# Altium integrated library NSC Switcher.IntLib: 867 symbols (part 13 of 21)
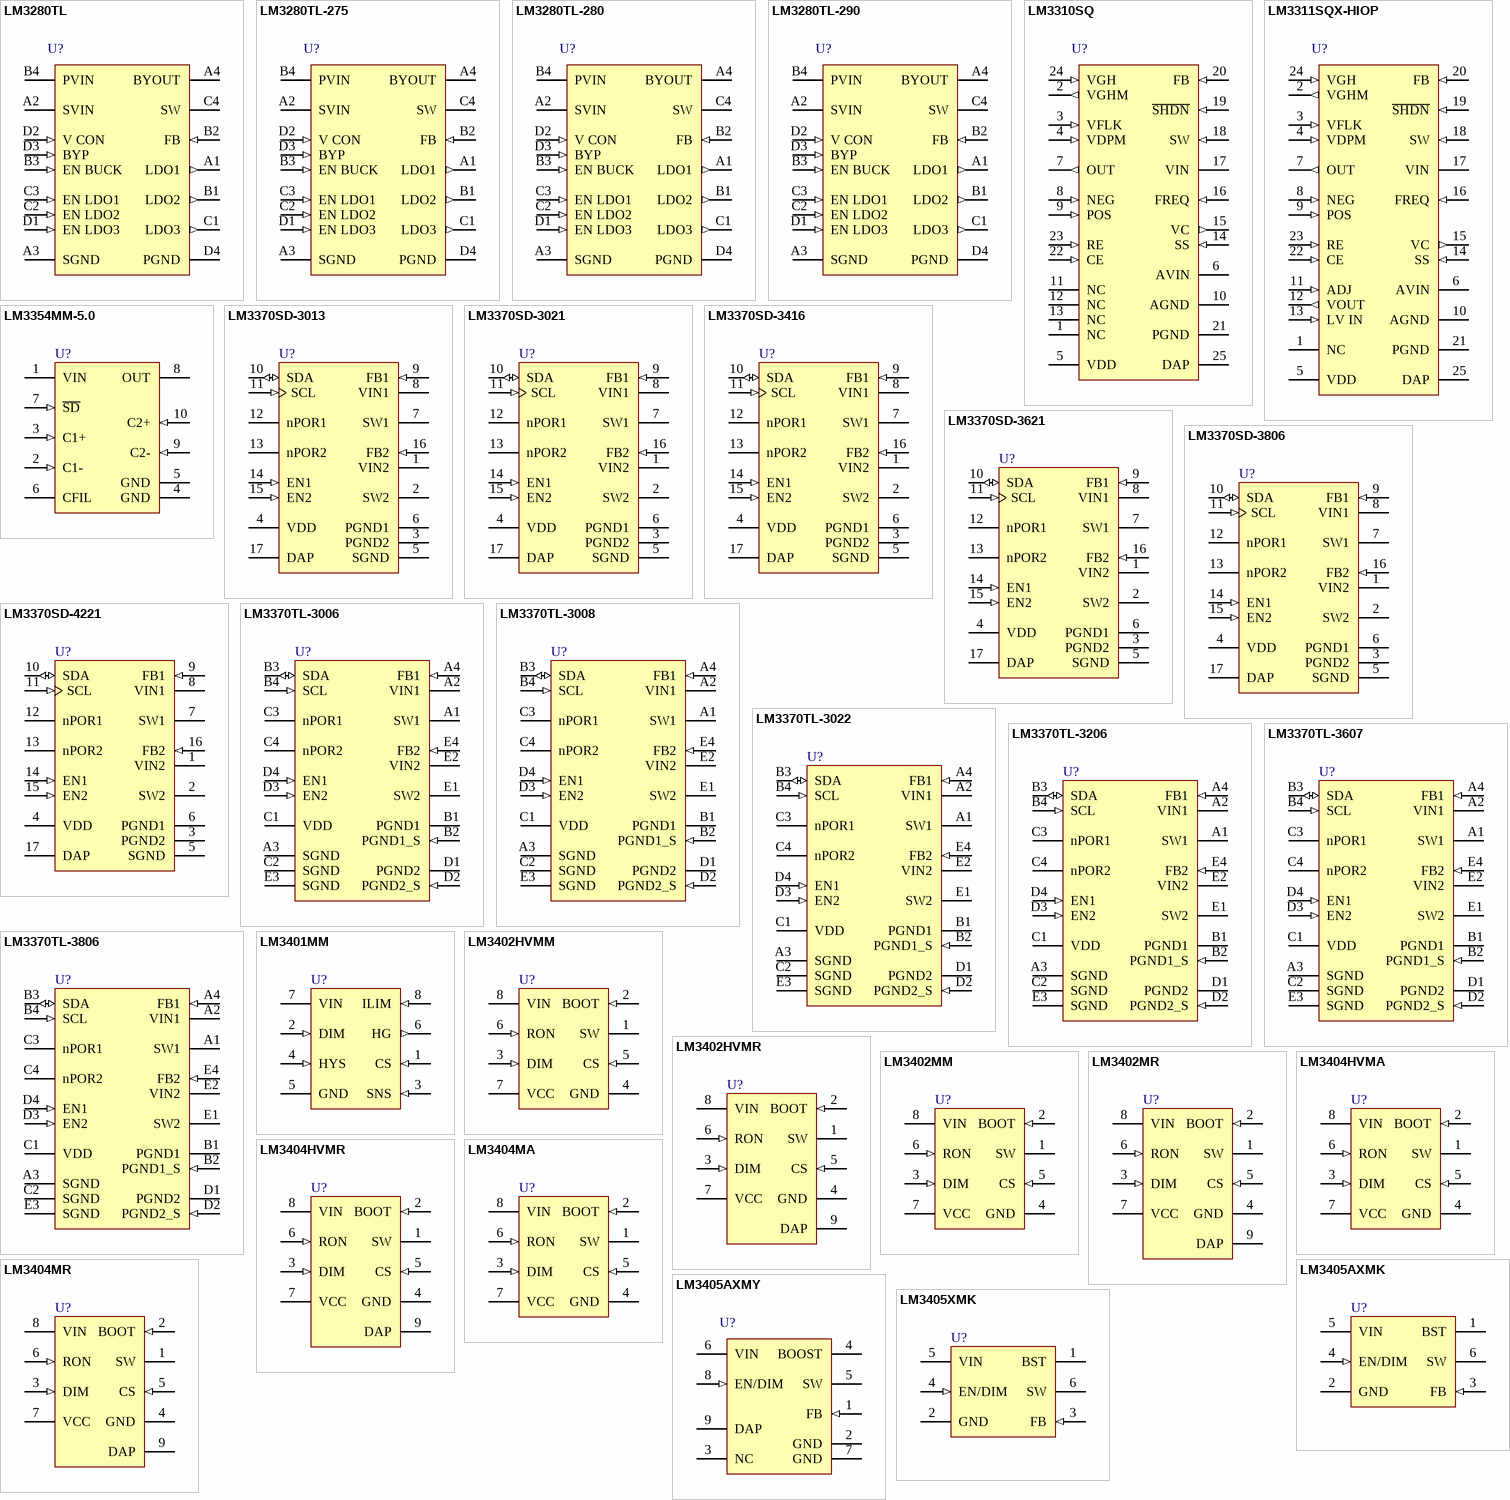
[diagram p38: symbols LM3280TL to LM3405XMK]

## LM3370TL-3806
designator U?
Dual Synchronous Step-Down DC-DC Converter with Dynamic Voltage Scaling Function; PartNumber: LM3370TL-3806; Manufacturer: National Semiconductor; CompType: Switcher; PackageTopMarking: XYTT*I SPVB; Published: 4-Dec-2008; PackageVersion: revD, 2008; PackageReference: TLA20CWA; Publisher: Altium Limited; PackageDescription: Thin Micro SMD, 20 Bump (Large), 0.5mm Pitch; RoHS: Y; PinCount: 20; DigiKeyPartNumber: LM3370TL-3806CT-ND; Code_JEDEC: MO-211-DG; ComponentLink1Description: LM3370 Datasheet; ComponentLink1URL: http://www.national.com/ds/LM/LM3370.pdf; ComponentLink2Description: LM3370 Web Page; ComponentLink2URL: http://www.national.com/pf/LM/LM3370.html; ComponentLink3Description: TLA20DWA Package Drawing; ComponentLink3URL: http://www.national.com/packaging/folders/tla20dwa.html
footprint TLA20CWA (Micro SMD, 20-Leads, Body 3x2.05mm, Pitch 0.5mm, NSC Recommended)
pins: A1 SW1 (power) "Buck 1 Switch Pin", A2 VIN1 (power) "Power supply voltage input to PFET and NFET switches for Buck 1", A3 SGND (power) "Signal GND", A4 FB1 (in) "Analog Feedback Input for Buck 1", B1 PGND1 (power) "Buck 1 Power Ground", B2 PGND1_S (in) "Buck 1 Power Ground Sense", B3 SDA (io) "I2C Compatible Data, a 2 kOhm pull up resistor is required", B4 SCL (in) "I2C Compatible Clock, a 2 kOhm pull up resistor is required", C1 VDD (power) "Signal supply voltage input.", C2 SGND (power) "Signal GND", C3 nPOR1 (oc) "Power ON Reset for Buck 1, Open drain output Low when Buck 1 output is 92% of target output.", C4 nPOR2 (oc) "Power ON Reset for Buck 2, Open drain output Low when Buck 2 output is 92% of target output.", D1 PGND2 (power) "Buck 2 Power Ground", D2 PGND2_S (in) "Buck 2 Power Ground Sense", D3 EN2 (in) "Buck 2 Enable", D4 EN1 (in) "Buck 1 Enable", E1 SW2 (power) "Buck 2 Switch Pin", E2 VIN2 (power) "Power supply voltage input to PFET and NFET switches for Buck 2", E3 SGND (power) "Signal GND", E4 FB2 (in) "Analog feedback for Buck 2"

## LM3401MM
designator U?
Hysteretic PFET Controller for High Power LED Drive; PartNumber: LM3401MM; Manufacturer: National Semiconductor; CompType: Switcher; PackageTopMarking: ZXTT*SNHB; Published: 4-Dec-2008; PackageVersion: revF, Apr-2008; PackageReference: MUA08A; Publisher: Altium Limited; PackageDescription: MINI SOIC, .118 x .118 x .034in, 8 Lead, .0256in Pitch; RoHS: Y; PinCount: 8; DigiKeyPartNumber: LM3401MMCT-ND; Code_JEDEC: MO-187-AA; ComponentLink1Description: LM3401 Datasheet; ComponentLink1URL: http://www.national.com/ds/LM/LM3401.pdf; ComponentLink2Description: LM3401 Web Page; ComponentLink2URL: http://www.national.com/pf/LM/LM3401.html; ComponentLink3Description: MUA08A Package Drawing; ComponentLink3URL: http://www.national.com/packaging/folders/mua08a.html
footprint MUA08A_N (TSOP, 8-Leads, Body 3x3mm, Pitch 0.65mm, IPC Medium Density)
footprint MUA08A_L (TSOP, 8-Leads, Body 3x3mm, Pitch 0.65mm, IPC High Density)
footprint MUA08A_M (TSOP, 8-Leads, Body 3x3mm, Pitch 0.65mm, IPC Low Density)
pins: 1 CS (in), 2 DIM (in), 3 SNS (in), 4 HYS (in), 5 GND (power), 6 HG (out), 7 VIN (power), 8 ILIM (in)

## LM3402HVMM
designator U?
0.5A Constant Current Buck Regulator for High Power LED Drivers; PartNumber: LM3402HVMM; Manufacturer: National Semiconductor; CompType: Switcher; PackageTopMarking: ZXTT*SNFB; Published: 4-Dec-2008; PackageVersion: revF, Apr-2008; PackageReference: MUA08A; Publisher: Altium Limited; PackageDescription: MINI SOIC, .118 x .118 x .034in, 8 Lead, .0256in Pitch; RoHS: Y; PinCount: 8; DigiKeyPartNumber: LM3402HVMMCT-ND; Code_JEDEC: MO-187-AA; ComponentLink1Description: LM3402HV Datasheet; ComponentLink1URL: http://www.national.com/ds/LM/LM3402HV.pdf; ComponentLink2Description: LM3402HV Web Page; ComponentLink2URL: http://www.national.com/pf/LM/LM3402HV.html; ComponentLink3Description: MUA08A Package Drawing; ComponentLink3URL: http://www.national.com/packaging/folders/mua08a.html
footprint MUA08A_N (TSOP, 8-Leads, Body 3x3mm, Pitch 0.65mm, IPC Medium Density)
footprint MUA08A_L (TSOP, 8-Leads, Body 3x3mm, Pitch 0.65mm, IPC High Density)
footprint MUA08A_M (TSOP, 8-Leads, Body 3x3mm, Pitch 0.65mm, IPC Low Density)
pins: 1 SW (power), 2 BOOT (in), 3 DIM (in), 4 GND (power), 5 CS (in), 6 RON (in), 7 VCC (power), 8 VIN (power)

## LM3402HVMR
designator U?
0.5A Constant Current Buck Regulator for High Power LED Drivers; PartNumber: LM3402HVMR; Manufacturer: National Semiconductor; CompType: Switcher; PackageTopMarking: NSXYTT*L3402*HVMR; Published: 4-Dec-2008; PackageVersion: revB, Dec-2007; PackageReference: MRA08B; Publisher: Altium Limited; PackageDescription: Molded, PSOP .193 x .154 x .058in, 8 Lead, .050in Pitch, Large DAP; RoHS: Y; PinCount: 8; DigiKeyPartNumber: LM3402HVMR-ND; Code_JEDEC: MS-012-AA; ComponentLink1Description: LM3402HV Datasheet; ComponentLink1URL: http://www.national.com/ds/LM/LM3402HV.pdf; ComponentLink2Description: LM3402HV Web Page; ComponentLink2URL: http://www.national.com/pf/LM/LM3402HV.html; ComponentLink3Description: MRA08B Package Drawing; ComponentLink3URL: http://www.national.com/packaging/folders/mra08b.html
footprint MRA08B_N (SOIC, 8-Leads, Body 4.9x3.9mm, Pitch 1.27mm, Exposed Pad, IPC Medium Density)
footprint MRA08B_L (SOIC, 8-Leads, Body 4.9x3.9mm, Pitch 1.27mm, Exposed Pad, IPC High Density)
footprint MRA08B_M (SOIC, 8-Leads, Body 4.9x3.9mm, Pitch 1.27mm, Exposed Pad, IPC Low Density)
pins: 1 SW (power), 2 BOOT (in), 3 DIM (in), 4 GND (power), 5 CS (in), 6 RON (in), 7 VCC (power), 8 VIN (power), 9 DAP (power)

## LM3402MM
designator U?
0.5A Constant Current Buck Regulator for High Power LED Drivers; PartNumber: LM3402MM; Manufacturer: National Semiconductor; CompType: Switcher; PackageTopMarking: ZXTT*SNEB; Published: 4-Dec-2008; PackageVersion: revF, Apr-2008; PackageReference: MUA08A; Publisher: Altium Limited; PackageDescription: MINI SOIC, .118 x .118 x .034in, 8 Lead, .0256in Pitch; RoHS: Y; PinCount: 8; DigiKeyPartNumber: LM3402MMCT-ND; Code_JEDEC: MO-187-AA; ComponentLink1Description: LM3402 Datasheet; ComponentLink1URL: http://www.national.com/ds/LM/LM3402.pdf; ComponentLink2Description: LM3402 Web Page; ComponentLink2URL: http://www.national.com/pf/LM/LM3402.html; ComponentLink3Description: MUA08A Package Drawing; ComponentLink3URL: http://www.national.com/packaging/folders/mua08a.html
footprint MUA08A_N (TSOP, 8-Leads, Body 3x3mm, Pitch 0.65mm, IPC Medium Density)
footprint MUA08A_L (TSOP, 8-Leads, Body 3x3mm, Pitch 0.65mm, IPC High Density)
footprint MUA08A_M (TSOP, 8-Leads, Body 3x3mm, Pitch 0.65mm, IPC Low Density)
pins: 1 SW (power), 2 BOOT (in), 3 DIM (in), 4 GND (power), 5 CS (in), 6 RON (in), 7 VCC (power), 8 VIN (power)

## LM3402MR
designator U?
0.5A Constant Current Buck Regulator for High Power LED Drivers; PartNumber: LM3402MR; Manufacturer: National Semiconductor; CompType: Switcher; PackageTopMarking: NSXYTT*L3402*MR; Published: 4-Dec-2008; PackageVersion: revB, Dec-2007; PackageReference: MRA08B; Publisher: Altium Limited; PackageDescription: Molded, PSOP .193 x .154 x .058in, 8 Lead, .050in Pitch, Large DAP; RoHS: Y; PinCount: 8; DigiKeyPartNumber: LM3402MR-ND; Code_JEDEC: MS-012-AA; ComponentLink1Description: LM3402 Datasheet; ComponentLink1URL: http://www.national.com/ds/LM/LM3402.pdf; ComponentLink2Description: LM3402 Web Page; ComponentLink2URL: http://www.national.com/pf/LM/LM3402.html; ComponentLink3Description: MRA08B Package Drawing; ComponentLink3URL: http://www.national.com/packaging/folders/mra08b.html
footprint MRA08B_N (SOIC, 8-Leads, Body 4.9x3.9mm, Pitch 1.27mm, Exposed Pad, IPC Medium Density)
footprint MRA08B_L (SOIC, 8-Leads, Body 4.9x3.9mm, Pitch 1.27mm, Exposed Pad, IPC High Density)
footprint MRA08B_M (SOIC, 8-Leads, Body 4.9x3.9mm, Pitch 1.27mm, Exposed Pad, IPC Low Density)
pins: 1 SW (power), 2 BOOT (in), 3 DIM (in), 4 GND (power), 5 CS (in), 6 RON (in), 7 VCC (power), 8 VIN (power), 9 DAP (power)

## LM3404HVMA
designator U?
1.0A Constant Current Buck Regulator for High Power LED Drivers; PartNumber: LM3404HVMA; Manufacturer: National Semiconductor; CompType: Switcher; PackageTopMarking: NSZXTT*L3404*HVMA; Published: 4-Dec-2008; PackageVersion: revL, Sep-2006; PackageReference: M08A; Publisher: Altium Limited; PackageDescription: SOIC Narrow, 4.9 x 3.9 x 1.45mm, 8 Lead, 1.27mm Pitch; RoHS: Y; PinCount: 8; DigiKeyPartNumber: LM3404HVMA-ND; Code_JEDEC: MS-012-AA; Code_IPC: SOIC127P600-8; ComponentLink1Description: LM3404HV Datasheet; ComponentLink1URL: http://www.national.com/ds/LM/LM3404HV.pdf; ComponentLink2Description: LM3404HV Web Page; ComponentLink2URL: http://www.national.com/pf/LM/LM3404HV.html; ComponentLink3Description: M08A Package Drawing; ComponentLink3URL: http://www.national.com/packaging/folders/m08a.html
footprint M08A_N (SOIC, 8-Leads, Body 4.9x3.9mm, Pitch 1.27mm, IPC Medium Density)
footprint M08A_L (SOIC, 8-Leads, Body 4.9x3.9mm, Pitch 1.27mm, IPC High Density)
footprint M08A_M (SOIC, 8-Leads, Body 4.9x3.9mm, Pitch 1.27mm, IPC Low Density)
pins: 1 SW (power), 2 BOOT (in), 3 DIM (in), 4 GND (power), 5 CS (in), 6 RON (in), 7 VCC (power), 8 VIN (power)

## LM3404HVMR
designator U?
1.0A Constant Current Buck Regulator for High Power LED Drivers; PartNumber: LM3404HVMR; Manufacturer: National Semiconductor; CompType: Switcher; PackageTopMarking: NSXYTT*L3404*HVMR; Published: 4-Dec-2008; PackageVersion: revB, Dec-2007; PackageReference: MRA08B; Publisher: Altium Limited; PackageDescription: Molded, PSOP .193 x .154 x .058in, 8 Lead, .050in Pitch, Large DAP; RoHS: Y; PinCount: 8; DigiKeyPartNumber: LM3404HVMR-ND; Code_JEDEC: MS-012-AA; ComponentLink1Description: LM3404HV Datasheet; ComponentLink1URL: http://www.national.com/ds/LM/LM3404HV.pdf; ComponentLink2Description: LM3404HV Web Page; ComponentLink2URL: http://www.national.com/pf/LM/LM3404HV.html; ComponentLink3Description: MRA08B Package Drawing; ComponentLink3URL: http://www.national.com/packaging/folders/mra08b.html
footprint MRA08B_N (SOIC, 8-Leads, Body 4.9x3.9mm, Pitch 1.27mm, Exposed Pad, IPC Medium Density)
footprint MRA08B_L (SOIC, 8-Leads, Body 4.9x3.9mm, Pitch 1.27mm, Exposed Pad, IPC High Density)
footprint MRA08B_M (SOIC, 8-Leads, Body 4.9x3.9mm, Pitch 1.27mm, Exposed Pad, IPC Low Density)
pins: 1 SW (power), 2 BOOT (in), 3 DIM (in), 4 GND (power), 5 CS (in), 6 RON (in), 7 VCC (power), 8 VIN (power), 9 DAP (power)

## LM3404MA
designator U?
1.0A Constant Current Buck Regulator for High Power LED Drivers; PartNumber: LM3404MA; Manufacturer: National Semiconductor; CompType: Switcher; PackageTopMarking: NSZXTT*L3404*MA; Published: 4-Dec-2008; PackageVersion: revL, Sep-2006; PackageReference: M08A; Publisher: Altium Limited; PackageDescription: SOIC Narrow, 4.9 x 3.9 x 1.45mm, 8 Lead, 1.27mm Pitch; RoHS: Y; PinCount: 8; DigiKeyPartNumber: LM3404MACT-ND; Code_JEDEC: MS-012-AA; Code_IPC: SOIC127P600-8; ComponentLink1Description: LM3404 Datasheet; ComponentLink1URL: http://www.national.com/ds/LM/LM3404.pdf; ComponentLink2Description: LM3404 Web Page; ComponentLink2URL: http://www.national.com/pf/LM/LM3404.html; ComponentLink3Description: M08A Package Drawing; ComponentLink3URL: http://www.national.com/packaging/folders/m08a.html
footprint M08A_N (SOIC, 8-Leads, Body 4.9x3.9mm, Pitch 1.27mm, IPC Medium Density)
footprint M08A_L (SOIC, 8-Leads, Body 4.9x3.9mm, Pitch 1.27mm, IPC High Density)
footprint M08A_M (SOIC, 8-Leads, Body 4.9x3.9mm, Pitch 1.27mm, IPC Low Density)
pins: 1 SW (power), 2 BOOT (in), 3 DIM (in), 4 GND (power), 5 CS (in), 6 RON (in), 7 VCC (power), 8 VIN (power)

## LM3404MR
designator U?
1.0A Constant Current Buck Regulator for High Power LED Drivers; PartNumber: LM3404MR; Manufacturer: National Semiconductor; CompType: Switcher; PackageTopMarking: NSXYTT*L3404*MR; Published: 4-Dec-2008; PackageVersion: revB, Dec-2007; PackageReference: MRA08B; Publisher: Altium Limited; PackageDescription: Molded, PSOP .193 x .154 x .058in, 8 Lead, .050in Pitch, Large DAP; RoHS: Y; PinCount: 8; DigiKeyPartNumber: LM3404MR-ND; Code_JEDEC: MS-012-AA; ComponentLink1Description: LM3404 Datasheet; ComponentLink1URL: http://www.national.com/ds/LM/LM3404.pdf; ComponentLink2Description: LM3404 Web Page; ComponentLink2URL: http://www.national.com/pf/LM/LM3404.html; ComponentLink3Description: MRA08B Package Drawing; ComponentLink3URL: http://www.national.com/packaging/folders/mra08b.html
footprint MRA08B_N (SOIC, 8-Leads, Body 4.9x3.9mm, Pitch 1.27mm, Exposed Pad, IPC Medium Density)
footprint MRA08B_L (SOIC, 8-Leads, Body 4.9x3.9mm, Pitch 1.27mm, Exposed Pad, IPC High Density)
footprint MRA08B_M (SOIC, 8-Leads, Body 4.9x3.9mm, Pitch 1.27mm, Exposed Pad, IPC Low Density)
pins: 1 SW (power), 2 BOOT (in), 3 DIM (in), 4 GND (power), 5 CS (in), 6 RON (in), 7 VCC (power), 8 VIN (power), 9 DAP (power)

## LM3405AXMK
designator U?
1.6MHz, 1A Constant Current Buck LED Driver with Internal Compensation in Tiny SOT23 Package; PartNumber: LM3405AXMK; Manufacturer: National Semiconductor; CompType: Switcher; PackageTopMarking: SSEB*XTT; Published: 4-Dec-2008; PackageVersion: revD, Jul-2005; PackageReference: MK06A; Publisher: Altium Limited; PackageDescription: Molded TSOT, 2.97 x 1.65 x 0.87mm Body, 6 Lead, 0.95mm Pitch; RoHS: Y; PinCount: 6; DigiKeyPartNumber: LM3405AXMKCT-ND; Code_JEDEC: MO-193-AA; Code_IPC: SOT26A-6; ComponentLink1Description: LM3405A Datasheet; ComponentLink1URL: http://www.national.com/ds/LM/LM3405A.pdf; ComponentLink2Description: LM3405A Web Page; ComponentLink2URL: http://www.national.com/pf/LM/LM3405A.html; ComponentLink3Description: MK06A Package Drawing; ComponentLink3URL: http://www.national.com/packaging/folders/mk06a.html
footprint MK06A_N (SOT23, 6-Leads, Body 3.0x1.7mm, Pitch 0.95mm, Lead Span 2.9mm, IPC Medium Density)
footprint MK06A_L (SOT23, 6-Leads, Body 3.0x1.7mm, Pitch 0.95mm, Lead Span 2.9mm, IPC High Density)
footprint MK06A_M (SOT23, 6-Leads, Body 3.0x1.7mm, Pitch 0.95mm, Lead Span 2.9mm, IPC Low Density)
pins: 1 BST, 2 GND (power), 3 FB (in), 4 EN/DIM (in), 5 VIN (power), 6 SW (power)

## LM3405AXMY
designator U?
1.6MHz, 1A Constant Current Buck LED Driver with Internal Compensation in eMSOP Package; PartNumber: LM3405AXMY; Manufacturer: National Semiconductor; CompType: Switcher; PackageTopMarking: ZXTT*SVSA; Published: 4-Dec-2008; PackageVersion: revA, Nov-2003; PackageReference: MUY08A; Publisher: Altium Limited; PackageDescription: Molded Mini-SO, Exposed Pad, .118 x .118 x .034in Body, 8 Lead, .0256in Pitch; RoHS: Y; PinCount: 8; Code_JEDEC: MO-187-AA; ComponentLink1Description: LM3405A Datasheet; ComponentLink1URL: http://www.national.com/ds/LM/LM3405A.pdf; ComponentLink2Description: LM3405A Web Page; ComponentLink2URL: http://www.national.com/pf/LM/LM3405A.html; ComponentLink3Description: MUY08A Package Drawing; ComponentLink3URL: http://www.national.com/packaging/folders/muy08a.html
footprint MUY08A_N (TSOP, 8-Leads, Body 3x3mm, Pitch 0.65mm, Exposed Pad, IPC Medium Density)
footprint MUY08A_L (TSOP, 8-Leads, Body 3x3mm, Pitch 0.65mm, Exposed Pad, IPC High Density)
footprint MUY08A_M (TSOP, 8-Leads, Body 3x3mm, Pitch 0.65mm, Exposed Pad, IPC Low Density)
pins: 1 FB (in), 2 GND (power), 3 NC, 4 BOOST, 5 SW (power), 6 VIN (power), 7 GND (power), 8 EN/DIM (in), 9 DAP (power)

## LM3405XMK
designator U?
1.6MHz 1A Constant Current Buck Regulator for Powering LEDs; PartNumber: LM3405XMK; Manufacturer: National Semiconductor; CompType: Switcher; PackageTopMarking: SPNB*XTT; Published: 4-Dec-2008; PackageVersion: revD, Jul-2005; PackageReference: MK06A; Publisher: Altium Limited; PackageDescription: Molded TSOT, 2.97 x 1.65 x 0.87mm Body, 6 Lead, 0.95mm Pitch; RoHS: Y; PinCount: 6; DigiKeyPartNumber: LM3405XMKCT-ND; Code_JEDEC: MO-193-AA; Code_IPC: SOT26A-6; ComponentLink1Description: LM3405 Datasheet; ComponentLink1URL: http://www.national.com/ds/LM/LM3405.pdf; ComponentLink2Description: LM3405 Web Page; ComponentLink2URL: http://www.national.com/pf/LM/LM3405.html; ComponentLink3Description: MK06A Package Drawing; ComponentLink3URL: http://www.national.com/packaging/folders/mk06a.html
footprint MK06A_N (SOT23, 6-Leads, Body 3.0x1.7mm, Pitch 0.95mm, Lead Span 2.9mm, IPC Medium Density)
footprint MK06A_L (SOT23, 6-Leads, Body 3.0x1.7mm, Pitch 0.95mm, Lead Span 2.9mm, IPC High Density)
footprint MK06A_M (SOT23, 6-Leads, Body 3.0x1.7mm, Pitch 0.95mm, Lead Span 2.9mm, IPC Low Density)
pins: 1 BST, 2 GND (power), 3 FB (in), 4 EN/DIM (in), 5 VIN (power), 6 SW (power)

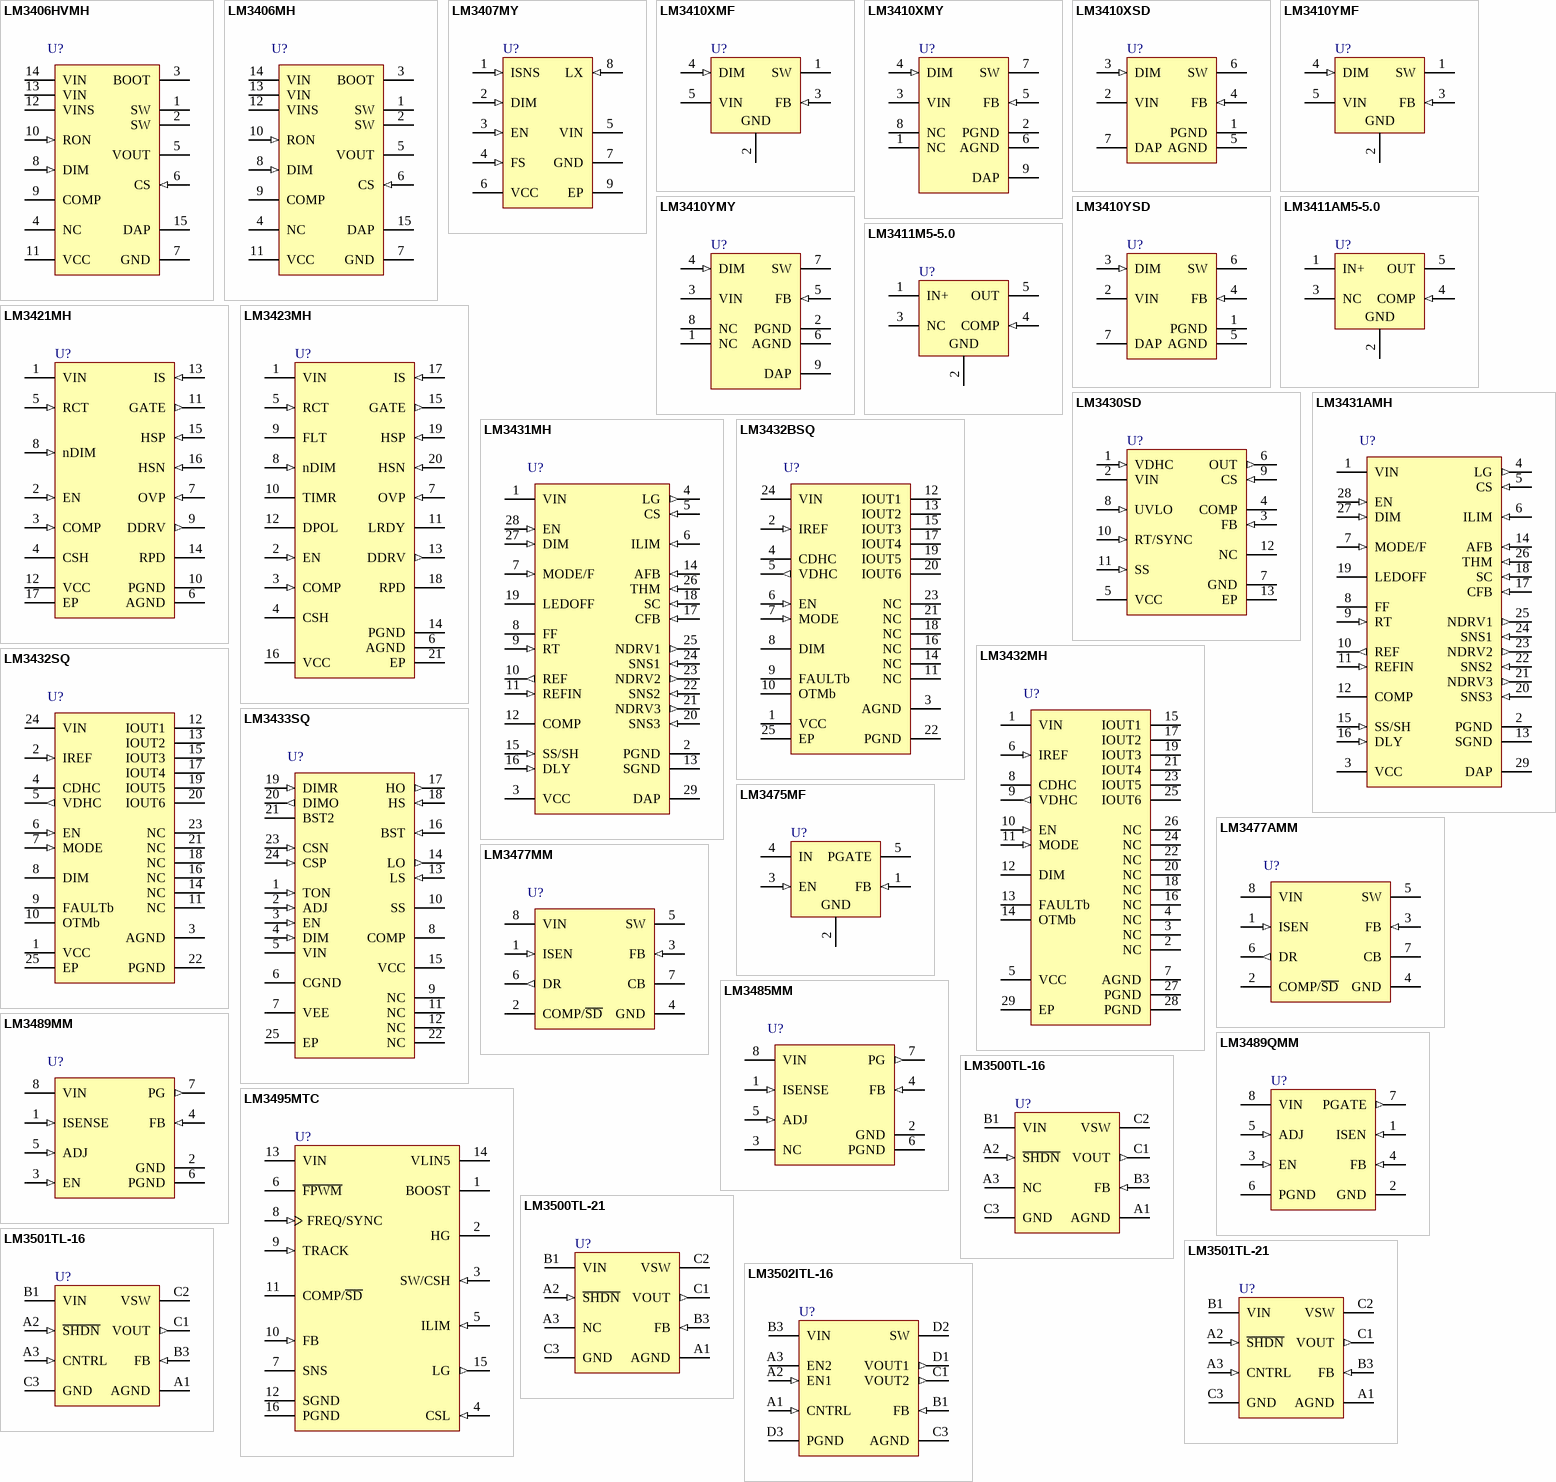
[diagram p15: symbols LM3406HVMH to LM3502ITL-16]

## LM3406HVMH
designator U?
1.5A Constant Current Buck Regulator for Driving High Power LEDs; PartNumber: LM3406HVMH; Manufacturer: National Semiconductor; CompType: Switcher; PackageTopMarking: NSUZXYTT*LM3406*HVMH; Published: 4-Dec-2008; PackageVersion: revA, Feb-2003; PackageReference: MXA14A; Publisher: Altium Limited; PackageDescription: Molded TSSOP, JEDEC, Exposed Pad, 5.0 x 4.4 x 0.9mm Body, 14 Lead, 0.65mm Pitch; RoHS: Y; PinCount: 14; DigiKeyPartNumber: LM3406HVMH-ND; Code_JEDEC: MO-153-ABT-1; ComponentLink1Description: LM3406HV Datasheet; ComponentLink1URL: http://www.national.com/ds/LM/LM3406HV.pdf; ComponentLink2Description: LM3406HV Web Page; ComponentLink2URL: http://www.national.com/pf/LM/LM3406HV.html; ComponentLink3Description: MXA14A Package Drawing; ComponentLink3URL: http://www.national.com/packaging/folders/mxa14a.html
footprint MXA14A_N (TSOP, 14-Leads, Body 5x4.4mm, Pitch 0.65mm, Exposed Pad, IPC Medium Density)
footprint MXA14A_L (TSOP, 14-Leads, Body 5x4.4mm, Pitch 0.65mm, Exposed Pad, IPC High Density)
footprint MXA14A_M (TSOP, 14-Leads, Body 5x4.4mm, Pitch 0.65mm, Exposed Pad, IPC Low Density)
pins: 1 SW (power), 2 SW (power), 3 BOOT, 4 NC, 5 VOUT, 6 CS (in), 7 GND (power), 8 DIM (in), 9 COMP, 10 RON (in), 11 VCC (power), 12 VINS (power), 13 VIN (power), 14 VIN (power), 15 DAP (power)

## LM3406MH
designator U?
1.5A Constant Current Buck Regulator for Driving High Power LEDs; PartNumber: LM3406MH; Manufacturer: National Semiconductor; CompType: Switcher; PackageTopMarking: NSUZXYTT*LM3406*MH; Published: 4-Dec-2008; PackageVersion: revA, Feb-2003; PackageReference: MXA14A; Publisher: Altium Limited; PackageDescription: Molded TSSOP, JEDEC, Exposed Pad, 5.0 x 4.4 x 0.9mm Body, 14 Lead, 0.65mm Pitch; RoHS: Y; PinCount: 14; DigiKeyPartNumber: LM3406MH-ND; Code_JEDEC: MO-153-ABT-1; ComponentLink1Description: LM3406 Datasheet; ComponentLink1URL: http://www.national.com/ds/LM/LM3406.pdf; ComponentLink2Description: LM3406 Web Page; ComponentLink2URL: http://www.national.com/pf/LM/LM3406.html; ComponentLink3Description: MXA14A Package Drawing; ComponentLink3URL: http://www.national.com/packaging/folders/mxa14a.html
footprint MXA14A_N (TSOP, 14-Leads, Body 5x4.4mm, Pitch 0.65mm, Exposed Pad, IPC Medium Density)
footprint MXA14A_L (TSOP, 14-Leads, Body 5x4.4mm, Pitch 0.65mm, Exposed Pad, IPC High Density)
footprint MXA14A_M (TSOP, 14-Leads, Body 5x4.4mm, Pitch 0.65mm, Exposed Pad, IPC Low Density)
pins: 1 SW (power), 2 SW (power), 3 BOOT, 4 NC, 5 VOUT, 6 CS (in), 7 GND (power), 8 DIM (in), 9 COMP, 10 RON (in), 11 VCC (power), 12 VINS (power), 13 VIN (power), 14 VIN (power), 15 DAP (power)

## LM3407MY
designator U?
350 mA, Constant Current Output Floating Buck Switching Converter for High Power LEDs; PartNumber: LM3407MY; Manufacturer: National Semiconductor; CompType: Switcher; PackageTopMarking: ZXTT*STZB; Published: 4-Dec-2008; PackageVersion: revA, Nov-2003; PackageReference: MUY08A; Publisher: Altium Limited; PackageDescription: Molded Mini-SO, Exposed Pad, .118 x .118 x .034in Body, 8 Lead, .0256in Pitch; RoHS: Y; PinCount: 8; DigiKeyPartNumber: LM3407MY-ND; Code_JEDEC: MO-187-AA; ComponentLink1Description: LM3407 Datasheet; ComponentLink1URL: http://www.national.com/ds/LM/LM3407.pdf; ComponentLink2Description: LM3407 Web Page; ComponentLink2URL: http://www.national.com/pf/LM/LM3407.html; ComponentLink3Description: MUY08A Package Drawing; ComponentLink3URL: http://www.national.com/packaging/folders/muy08a.html
footprint MUY08A_N (TSOP, 8-Leads, Body 3x3mm, Pitch 0.65mm, Exposed Pad, IPC Medium Density)
footprint MUY08A_L (TSOP, 8-Leads, Body 3x3mm, Pitch 0.65mm, Exposed Pad, IPC High Density)
footprint MUY08A_M (TSOP, 8-Leads, Body 3x3mm, Pitch 0.65mm, Exposed Pad, IPC Low Density)
pins: 1 ISNS (in), 2 DIM (in), 3 EN (in), 4 FS (in), 5 VIN (power), 6 VCC (power), 7 GND (power), 8 LX (in), 9 EP (power)

## LM3410XMF
designator U?
PowerWise 525kHz/1.6MHz, Constant Current Boost and SEPIC LED Driver with Internal Compensation; PartNumber: LM3410XMF; Manufacturer: National Semiconductor; CompType: Switcher; PackageTopMarking: SSVB*XTT; Published: 4-Dec-2008; PackageVersion: revD, Aug-2008; PackageReference: MF05A; Publisher: Altium Limited; PackageDescription: Molded SOT-23, .115 x .063 x .040 in Body, 5 Lead, .0375 in Pitch; RoHS: Y; PinCount: 5; DigiKeyPartNumber: LM3410XMFCT-ND; Code_IPC: SOT23-5; ComponentLink1Description: LM3410 Datasheet; ComponentLink1URL: http://www.national.com/ds/LM/LM3410.pdf; ComponentLink2Description: LM3410 Web Page; ComponentLink2URL: http://www.national.com/pf/LM/LM3410.html; ComponentLink3Description: MF05A Package Drawing; ComponentLink3URL: http://www.national.com/packaging/folders/mf05a.html
footprint MF05A_N (SOT23, 5-Leads, Body 2.9x1.6mm, Pitch 0.95mm, Lead Span 2.8mm, IPC Medium Density)
footprint MF05A_L (SOT23, 5-Leads, Body 2.9x1.6mm, Pitch 0.95mm, Lead Span 2.8mm, IPC High Density)
footprint MF05A_M (SOT23, 5-Leads, Body 2.9x1.6mm, Pitch 0.95mm, Lead Span 2.8mm, IPC Low Density)
pins: 1 SW (power), 2 GND (power), 3 FB (in), 4 DIM (in), 5 VIN (power)

## LM3410XMY
designator U?
PowerWise 525kHz/1.6MHz, Constant Current Boost and SEPIC LED Driver with Internal Compensation; PartNumber: LM3410XMY; Manufacturer: National Semiconductor; CompType: Switcher; PackageTopMarking: ZXTT*SSXB; Published: 4-Dec-2008; PackageVersion: revA, Nov-2003; PackageReference: MUY08A; Publisher: Altium Limited; PackageDescription: Molded Mini-SO, Exposed Pad, .118 x .118 x .034in Body, 8 Lead, .0256in Pitch; RoHS: Y; PinCount: 8; DigiKeyPartNumber: LM3410XMY-ND; Code_JEDEC: MO-187-AA; ComponentLink1Description: LM3410 Datasheet; ComponentLink1URL: http://www.national.com/ds/LM/LM3410.pdf; ComponentLink2Description: LM3410 Web Page; ComponentLink2URL: http://www.national.com/pf/LM/LM3410.html; ComponentLink3Description: MUY08A Package Drawing; ComponentLink3URL: http://www.national.com/packaging/folders/muy08a.html
footprint MUY08A_N (TSOP, 8-Leads, Body 3x3mm, Pitch 0.65mm, Exposed Pad, IPC Medium Density)
footprint MUY08A_L (TSOP, 8-Leads, Body 3x3mm, Pitch 0.65mm, Exposed Pad, IPC High Density)
footprint MUY08A_M (TSOP, 8-Leads, Body 3x3mm, Pitch 0.65mm, Exposed Pad, IPC Low Density)
pins: 1 NC, 2 PGND (power), 3 VIN (power), 4 DIM (in), 5 FB (in), 6 AGND (power), 7 SW (power), 8 NC, 9 DAP (power)

## LM3410XSD
designator U?
PowerWise 525kHz/1.6MHz, Constant Current Boost and SEPIC LED Driver with Internal Compensation; PartNumber: LM3410XSD; Manufacturer: National Semiconductor; CompType: Switcher; PackageTopMarking: ZXYTT*3410X; Published: 4-Dec-2008; PackageVersion: revA, Jul-2003; PackageReference: SDE06A; Publisher: Altium Limited; PackageDescription: LLP, Plastic, Dual, 3 x 3 x 0.8mm Body, 6 Lead, 0.95mm Pitch, No Pullback; RoHS: Y; PinCount: 6; DigiKeyPartNumber: LM3410XSDCT-ND; ComponentLink1Description: LM3410 Datasheet; ComponentLink1URL: http://www.national.com/ds/LM/LM3410.pdf; ComponentLink2Description: LM3410 Web Page; ComponentLink2URL: http://www.national.com/pf/LM/LM3410.html; ComponentLink3Description: SDE06A Package Drawing; ComponentLink3URL: http://www.national.com/packaging/folders/sde06a.html
footprint SDE06A_full (SON, 6-Leads, Body 3x3 mm, Pitch 0.95mm, Full Paste, NSC Recommended)
footprint SDE06A_quad (SON, 6-Leads, Body 3x3 mm, Pitch 0.95mm, Quad Paste, NSC Recommended)
pins: 1 PGND (power), 2 VIN (power), 3 DIM (in), 4 FB (in), 5 AGND (power), 6 SW (power), 7 DAP (power)

## LM3410YMF
designator U?
PowerWise 525kHz/1.6MHz, Constant Current Boost and SEPIC LED Driver with Internal Compensation; PartNumber: LM3410YMF; Manufacturer: National Semiconductor; CompType: Switcher; PackageTopMarking: SSZB*XTT; Published: 4-Dec-2008; PackageVersion: revD, Aug-2008; PackageReference: MF05A; Publisher: Altium Limited; PackageDescription: Molded SOT-23, .115 x .063 x .040 in Body, 5 Lead, .0375 in Pitch; RoHS: Y; PinCount: 5; DigiKeyPartNumber: LM3410YMFCT-ND; Code_IPC: SOT23-5; ComponentLink1Description: LM3410 Datasheet; ComponentLink1URL: http://www.national.com/ds/LM/LM3410.pdf; ComponentLink2Description: LM3410 Web Page; ComponentLink2URL: http://www.national.com/pf/LM/LM3410.html; ComponentLink3Description: MF05A Package Drawing; ComponentLink3URL: http://www.national.com/packaging/folders/mf05a.html
footprint MF05A_N (SOT23, 5-Leads, Body 2.9x1.6mm, Pitch 0.95mm, Lead Span 2.8mm, IPC Medium Density)
footprint MF05A_L (SOT23, 5-Leads, Body 2.9x1.6mm, Pitch 0.95mm, Lead Span 2.8mm, IPC High Density)
footprint MF05A_M (SOT23, 5-Leads, Body 2.9x1.6mm, Pitch 0.95mm, Lead Span 2.8mm, IPC Low Density)
pins: 1 SW (power), 2 GND (power), 3 FB (in), 4 DIM (in), 5 VIN (power)

## LM3410YMY
designator U?
PowerWise 525kHz/1.6MHz, Constant Current Boost and SEPIC LED Driver with Internal Compensation; PartNumber: LM3410YMY; Manufacturer: National Semiconductor; CompType: Switcher; PackageTopMarking: ZXTT*STAB; Published: 4-Dec-2008; PackageVersion: revA, Nov-2003; PackageReference: MUY08A; Publisher: Altium Limited; PackageDescription: Molded Mini-SO, Exposed Pad, .118 x .118 x .034in Body, 8 Lead, .0256in Pitch; RoHS: Y; PinCount: 8; DigiKeyPartNumber: LM3410YMY-ND; Code_JEDEC: MO-187-AA; ComponentLink1Description: LM3410 Datasheet; ComponentLink1URL: http://www.national.com/ds/LM/LM3410.pdf; ComponentLink2Description: LM3410 Web Page; ComponentLink2URL: http://www.national.com/pf/LM/LM3410.html; ComponentLink3Description: MUY08A Package Drawing; ComponentLink3URL: http://www.national.com/packaging/folders/muy08a.html
footprint MUY08A_N (TSOP, 8-Leads, Body 3x3mm, Pitch 0.65mm, Exposed Pad, IPC Medium Density)
footprint MUY08A_L (TSOP, 8-Leads, Body 3x3mm, Pitch 0.65mm, Exposed Pad, IPC High Density)
footprint MUY08A_M (TSOP, 8-Leads, Body 3x3mm, Pitch 0.65mm, Exposed Pad, IPC Low Density)
pins: 1 NC, 2 PGND (power), 3 VIN (power), 4 DIM (in), 5 FB (in), 6 AGND (power), 7 SW (power), 8 NC, 9 DAP (power)

## LM3410YSD
designator U?
PowerWise 525kHz/1.6MHz, Constant Current Boost and SEPIC LED Driver with Internal Compensation; PartNumber: LM3410YSD; Manufacturer: National Semiconductor; CompType: Switcher; PackageTopMarking: ZXYTT*3410Y; Published: 4-Dec-2008; PackageVersion: revA, Jul-2003; PackageReference: SDE06A; Publisher: Altium Limited; PackageDescription: LLP, Plastic, Dual, 3 x 3 x 0.8mm Body, 6 Lead, 0.95mm Pitch, No Pullback; RoHS: Y; PinCount: 6; DigiKeyPartNumber: LM3410YSDCT-ND; ComponentLink1Description: LM3410 Datasheet; ComponentLink1URL: http://www.national.com/ds/LM/LM3410.pdf; ComponentLink2Description: LM3410 Web Page; ComponentLink2URL: http://www.national.com/pf/LM/LM3410.html; ComponentLink3Description: SDE06A Package Drawing; ComponentLink3URL: http://www.national.com/packaging/folders/sde06a.html
footprint SDE06A_full (SON, 6-Leads, Body 3x3 mm, Pitch 0.95mm, Full Paste, NSC Recommended)
footprint SDE06A_quad (SON, 6-Leads, Body 3x3 mm, Pitch 0.95mm, Quad Paste, NSC Recommended)
pins: 1 PGND (power), 2 VIN (power), 3 DIM (in), 4 FB (in), 5 AGND (power), 6 SW (power), 7 DAP (power)

## LM3411AM5-5.0
designator U?
Precision Secondary Regulator/Driver; PartNumber: LM3411AM5-5.0; Manufacturer: National Semiconductor; CompType: Switcher; PackageTopMarking: D01A*XTT; Published: 4-Dec-2008; PackageVersion: revD, Aug-2008; PackageReference: MF05A; Publisher: Altium Limited; PackageDescription: Molded SOT-23, .115 x .063 x .040 in Body, 5 Lead, .0375 in Pitch; RoHS: O; PinCount: 5; DigiKeyPartNumber: LM3411AM5-5.0CT-ND; Code_IPC: SOT23-5; ComponentLink1Description: LM3411 Datasheet; ComponentLink1URL: http://www.national.com/ds/LM/LM3411.pdf; ComponentLink2Description: LM3411 Web Page; ComponentLink2URL: http://www.national.com/pf/LM/LM3411.html; ComponentLink3Description: MF05A Package Drawing; ComponentLink3URL: http://www.national.com/packaging/folders/mf05a.html
footprint MF05A_N (SOT23, 5-Leads, Body 2.9x1.6mm, Pitch 0.95mm, Lead Span 2.8mm, IPC Medium Density)
footprint MF05A_L (SOT23, 5-Leads, Body 2.9x1.6mm, Pitch 0.95mm, Lead Span 2.8mm, IPC High Density)
footprint MF05A_M (SOT23, 5-Leads, Body 2.9x1.6mm, Pitch 0.95mm, Lead Span 2.8mm, IPC Low Density)
pins: 1 IN+ (power), 2 GND (power), 3 NC, 4 COMP (in), 5 OUT (power)

## LM3411M5-5.0
designator U?
Precision Secondary Regulator/Driver; PartNumber: LM3411M5-5.0; Manufacturer: National Semiconductor; CompType: Switcher; PackageTopMarking: D01B*XTT; Published: 4-Dec-2008; PackageVersion: revD, Aug-2008; PackageReference: MF05A; Publisher: Altium Limited; PackageDescription: Molded SOT-23, .115 x .063 x .040 in Body, 5 Lead, .0375 in Pitch; RoHS: O; PinCount: 5; DigiKeyPartNumber: LM3411M5-5.0CT-ND; Code_IPC: SOT23-5; ComponentLink1Description: LM3411 Datasheet; ComponentLink1URL: http://www.national.com/ds/LM/LM3411.pdf; ComponentLink2Description: LM3411 Web Page; ComponentLink2URL: http://www.national.com/pf/LM/LM3411.html; ComponentLink3Description: MF05A Package Drawing; ComponentLink3URL: http://www.national.com/packaging/folders/mf05a.html
footprint MF05A_N (SOT23, 5-Leads, Body 2.9x1.6mm, Pitch 0.95mm, Lead Span 2.8mm, IPC Medium Density)
footprint MF05A_L (SOT23, 5-Leads, Body 2.9x1.6mm, Pitch 0.95mm, Lead Span 2.8mm, IPC High Density)
footprint MF05A_M (SOT23, 5-Leads, Body 2.9x1.6mm, Pitch 0.95mm, Lead Span 2.8mm, IPC Low Density)
pins: 1 IN+ (power), 2 GND (power), 3 NC, 4 COMP (in), 5 OUT (power)

## LM3421MH
designator U?
N-Channel Controllers for Constant Current LED Drivers; PartNumber: LM3421MH; Manufacturer: National Semiconductor; CompType: Switcher; PackageTopMarking: NSUZXYTT*LM3421*MH; Published: 4-Dec-2008; PackageVersion: revA, Apr-2003; PackageReference: MXA16A; Publisher: Altium Limited; PackageDescription: Molded TSSOP, Jedec, Exposed Pad, 5.0 x 4.4 x 0.9mm Body,16 Lead, 0.65mm Pitch; RoHS: Y; PinCount: 16; DigiKeyPartNumber: LM3421MH-ND; Code_JEDEC: MO-153-ABT; ComponentLink1Description: LM3421 Datasheet; ComponentLink1URL: http://www.national.com/ds/LM/LM3421.pdf; ComponentLink2Description: LM3421 Web Page; ComponentLink2URL: http://www.national.com/pf/LM/LM3421.html; ComponentLink3Description: MXA16A Package Drawing; ComponentLink3URL: http://www.national.com/packaging/folders/mxa16a.html
footprint MXA16A_N (TSOP, 16-Leads, Body 5x4.4mm, Pitch 0.65mm, Exposed Pad, IPC Medium Density)
footprint MXA16A_L (TSOP, 16-Leads, Body 5x4.4mm, Pitch 0.65mm, Exposed Pad, IPC High Density)
footprint MXA16A_M (TSOP, 16-Leads, Body 5x4.4mm, Pitch 0.65mm, Exposed Pad, IPC Low Density)
pins: 1 VIN (power), 2 EN (in), 3 COMP (in), 4 CSH, 5 RCT (in), 6 AGND (power), 7 OVP (in), 8 nDIM (in), 9 DDRV (out), 10 PGND (power), 11 GATE (out), 12 VCC (power), 13 IS (in), 14 RPD (oc), 15 HSP (in), 16 HSN (in), 17 EP (power)

## LM3423MH
designator U?
N-Channel Controllers for Constant Current LED Drivers; PartNumber: LM3423MH; Manufacturer: National Semiconductor; CompType: Switcher; PackageTopMarking: NSUZXYTT*LM3423*MH; Published: 4-Dec-2008; PackageVersion: revC, Jul-2006; PackageReference: MXA20A; Publisher: Altium Limited; PackageDescription: Molded TSSOP, Jedec, 6.5 x 4.4 x 0.9mm Body, 20 Lead, 0.65mm Pitch, Exposed Pad; RoHS: Y; PinCount: 20; DigiKeyPartNumber: LM3423MH-ND; Code_JEDEC: MO-153-ACT; ComponentLink1Description: LM3423 Datasheet; ComponentLink1URL: http://www.national.com/ds/LM/LM3423.pdf; ComponentLink2Description: LM3423 Web Page; ComponentLink2URL: http://www.national.com/pf/LM/LM3423.html; ComponentLink3Description: MXA20A Package Drawing; ComponentLink3URL: http://www.national.com/packaging/folders/mxa20a.html
footprint MXA20A_N (TSOP, 20-Leads, Body 6.5x4.4mm, Pitch 0.65mm, Exposed Pad, IPC Medium Density)
footprint MXA20A_L (TSOP, 20-Leads, Body 6.5x4.4mm, Pitch 0.65mm, Exposed Pad, IPC High Density)
footprint MXA20A_M (TSOP, 20-Leads, Body 6.5x4.4mm, Pitch 0.65mm, Exposed Pad, IPC Low Density)
pins: 1 VIN (power), 2 EN (in), 3 COMP (in), 4 CSH, 5 RCT (in), 6 AGND (power), 7 OVP (in), 8 nDIM (in), 9 FLT (oc), 10 TIMR, 11 LRDY (oc), 12 DPOL, 13 DDRV (out), 14 PGND (power), 15 GATE (out), 16 VCC (power), 17 IS (in), 18 RPD (oc), 19 HSP (in), 20 HSN (in), 21 EP (power)

## LM3430SD
designator U?
Boost Controller for LED Backlighting; PartNumber: LM3430SD; Manufacturer: National Semiconductor; CompType: Switcher; PackageTopMarking: ZXYTT*L3430; Published: 4-Dec-2008; PackageVersion: revB, Jul-2008; PackageReference: SDF12A; Publisher: Altium Limited; PackageDescription: LLP, Plastic, Dual, 3 x 3 x 0.8mm Body, 12 Lead, 0.4mm Pitch, No Pullback; RoHS: O; PinCount: 12; DigiKeyPartNumber: LM3430SDCT-ND; ComponentLink1Description: LM3430 Datasheet; ComponentLink1URL: http://www.national.com/ds/LM/LM3430.pdf; ComponentLink2Description: LM3430 Web Page; ComponentLink2URL: http://www.national.com/pf/LM/LM3430.html; ComponentLink3Description: SDF12A Package Drawing; ComponentLink3URL: http://www.national.com/packaging/folders/sdf12a.html
footprint SDF12A (SON, 12-Leads, Body 3x3mm, Pitch 0.4mm, NSC Recommended)
pins: 1 VDHC (in), 2 VIN (power), 3 FB (in), 4 COMP, 5 VCC (power), 6 OUT (out), 7 GND (power), 8 UVLO (in), 9 CS (in), 10 RT/SYNC (in), 11 SS (in), 12 NC, 13 EP (power)

## LM3431AMH
designator U?
3-Channel Constant Current LED Driver with Integrated Boost Controller; PartNumber: LM3431AMH; Manufacturer: National Semiconductor; CompType: Switcher; PackageTopMarking: NSUZXYTT*LM3431AMH; Published: 4-Dec-2008; PackageVersion: revD, Oct-2003; PackageReference: MXA28A; Publisher: Altium Limited; PackageDescription: Molded TSSOP, Jedec, 9.7 x 4.4 x 0.9mm Body, 28 Lead, 0.65mm Pitch, Exposed Pad; RoHS: Y; PinCount: 28; DigiKeyPartNumber: LM3431AMH-ND; Code_JEDEC: MO-153-AET; ComponentLink1Description: LM3431 Datasheet; ComponentLink1URL: http://www.national.com/ds/LM/LM3431.pdf; ComponentLink2Description: LM3431 Web Page; ComponentLink2URL: http://www.national.com/pf/LM/LM3431.html; ComponentLink3Description: MXA28A Package Drawing; ComponentLink3URL: http://www.national.com/packaging/folders/mxa28a.html
footprint MXA28A_N (TSOP, 28-Leads, Body 9.7x4.4mm, Pitch 0.65mm, Exposed Pad, IPC Medium Density)
footprint MXA28A_L (TSOP, 28-Leads, Body 9.7x4.4mm, Pitch 0.65mm, Exposed Pad, IPC High Density)
footprint MXA28A_M (TSOP, 28-Leads, Body 9.7x4.4mm, Pitch 0.65mm, Exposed Pad, IPC Low Density)
pins: 1 VIN (power), 2 PGND (power), 3 VCC (power), 4 LG (out), 5 CS (in), 6 ILIM (in), 7 MODE/F (in), 8 FF, 9 RT (in), 10 REF (out), 11 REFIN (in), 12 COMP, 13 SGND (power), 14 AFB (in), 15 SS/SH (in), 16 DLY (in), 17 CFB (in), 18 SC (in), 19 LEDOFF, 20 SNS3 (in), 21 NDRV3 (out), 22 SNS2 (in), 23 NDRV2 (out), 24 SNS1 (in), 25 NDRV1 (out), 26 THM (in), 27 DIM (in), 28 EN (in), 29 DAP (power)

## LM3431MH
designator U?
3-Channel Constant Current LED Driver with Integrated Boost Controller; PartNumber: LM3431MH; Manufacturer: National Semiconductor; CompType: Switcher; PackageTopMarking: NSUZXYTT*LM3431MH; Published: 4-Dec-2008; PackageVersion: revD, Oct-2003; PackageReference: MXA28A; Publisher: Altium Limited; PackageDescription: Molded TSSOP, Jedec, 9.7 x 4.4 x 0.9mm Body, 28 Lead, 0.65mm Pitch, Exposed Pad; RoHS: Y; PinCount: 28; DigiKeyPartNumber: LM3431MH-ND; Code_JEDEC: MO-153-AET; ComponentLink1Description: LM3431 Datasheet; ComponentLink1URL: http://www.national.com/ds/LM/LM3431.pdf; ComponentLink2Description: LM3431 Web Page; ComponentLink2URL: http://www.national.com/pf/LM/LM3431.html; ComponentLink3Description: MXA28A Package Drawing; ComponentLink3URL: http://www.national.com/packaging/folders/mxa28a.html
footprint MXA28A_N (TSOP, 28-Leads, Body 9.7x4.4mm, Pitch 0.65mm, Exposed Pad, IPC Medium Density)
footprint MXA28A_L (TSOP, 28-Leads, Body 9.7x4.4mm, Pitch 0.65mm, Exposed Pad, IPC High Density)
footprint MXA28A_M (TSOP, 28-Leads, Body 9.7x4.4mm, Pitch 0.65mm, Exposed Pad, IPC Low Density)
pins: 1 VIN (power), 2 PGND (power), 3 VCC (power), 4 LG (out), 5 CS (in), 6 ILIM (in), 7 MODE/F (in), 8 FF, 9 RT (in), 10 REF (out), 11 REFIN (in), 12 COMP, 13 SGND (power), 14 AFB (in), 15 SS/SH (in), 16 DLY (in), 17 CFB (in), 18 SC (in), 19 LEDOFF, 20 SNS3 (in), 21 NDRV3 (out), 22 SNS2 (in), 23 NDRV2 (out), 24 SNS1 (in), 25 NDRV1 (out), 26 THM (in), 27 DIM (in), 28 EN (in), 29 DAP (power)

## LM3432BSQ
designator U?
6-Channel Current Regulator for LED Backlight Application; PartNumber: LM3432BSQ; Manufacturer: National Semiconductor; CompType: Switcher; PackageTopMarking: NS*UZXYTT*3432BSQ; Published: 4-Dec-2008; PackageVersion: revA, Oct-2003; PackageReference: SQA24B; Publisher: Altium Limited; PackageDescription: LLP, Plastic, Quad, 5 x 4 x 0.8mm Body, 24 Lead, 0.5mm Pitch, No Pullback; RoHS: Y; PinCount: 24; Code_JEDEC: MO-220-WGHD-1; ComponentLink1Description: LM3432B Datasheet; ComponentLink1URL: http://www.national.com/ds/LM/LM3432B.pdf; ComponentLink2Description: LM3432B Web Page; ComponentLink2URL: http://www.national.com/pf/LM/LM3432B.html; ComponentLink3Description: SQA24B Package Drawing; ComponentLink3URL: http://www.national.com/packaging/folders/sqa24b.html
footprint SQA24B (QFN, 24-Leads, Body 5x4mm, Pitch 0.5mm, NSC Recommended)
pins: 1 VCC (power), 2 IREF (in), 3 AGND (power), 4 CDHC, 5 VDHC (out), 6 EN (in), 7 MODE (in), 8 DIM, 9 FAULTb (oc), 10 OTMb (oc), 11 NC, 12 IOUT1 (oc), 13 IOUT2 (oc), 14 NC, 15 IOUT3 (oc), 16 NC, 17 IOUT4 (oc), 18 NC, 19 IOUT5 (oc), 20 IOUT6 (oc), 21 NC, 22 PGND (power), 23 NC, 24 VIN (power), 25 EP (power)

## LM3432MH
designator U?
6-Channel Current Regulator for LED Backlight Application; PartNumber: LM3432MH; Manufacturer: National Semiconductor; CompType: Switcher; PackageTopMarking: NSUZXYTT*LM3432*MH; Published: 4-Dec-2008; PackageVersion: revD, Oct-2003; PackageReference: MXA28A; Publisher: Altium Limited; PackageDescription: Molded TSSOP, Jedec, 9.7 x 4.4 x 0.9mm Body, 28 Lead, 0.65mm Pitch, Exposed Pad; RoHS: Y; PinCount: 28; DigiKeyPartNumber: LM3432MH-ND; Code_JEDEC: MO-153-AET; ComponentLink1Description: LM3432 Datasheet; ComponentLink1URL: http://www.national.com/ds/LM/LM3432.pdf; ComponentLink2Description: LM3432 Web Page; ComponentLink2URL: http://www.national.com/pf/LM/LM3432.html; ComponentLink3Description: MXA28A Package Drawing; ComponentLink3URL: http://www.national.com/packaging/folders/mxa28a.html
footprint MXA28A_N (TSOP, 28-Leads, Body 9.7x4.4mm, Pitch 0.65mm, Exposed Pad, IPC Medium Density)
footprint MXA28A_L (TSOP, 28-Leads, Body 9.7x4.4mm, Pitch 0.65mm, Exposed Pad, IPC High Density)
footprint MXA28A_M (TSOP, 28-Leads, Body 9.7x4.4mm, Pitch 0.65mm, Exposed Pad, IPC Low Density)
pins: 1 VIN (power), 2 NC, 3 NC, 4 NC, 5 VCC (power), 6 IREF (in), 7 AGND (power), 8 CDHC, 9 VDHC (out), 10 EN (in), 11 MODE (in), 12 DIM, 13 FAULTb (oc), 14 OTMb (oc), 15 IOUT1 (oc), 16 NC, 17 IOUT2 (oc), 18 NC, 19 IOUT3 (oc), 20 NC, 21 IOUT4 (oc), 22 NC, 23 IOUT5 (oc), 24 NC, 25 IOUT6 (oc), 26 NC, 27 PGND (power), 28 PGND (power), 29 EP (power)

## LM3432SQ
designator U?
6-Channel Current Regulator for LED Backlight Application; PartNumber: LM3432SQ; Manufacturer: National Semiconductor; CompType: Switcher; PackageTopMarking: NS*UZXYTT*L3432SQ; Published: 4-Dec-2008; PackageVersion: revA, Oct-2003; PackageReference: SQA24B; Publisher: Altium Limited; PackageDescription: LLP, Plastic, Quad, 5 x 4 x 0.8mm Body, 24 Lead, 0.5mm Pitch, No Pullback; RoHS: Y; PinCount: 24; DigiKeyPartNumber: LM3432SQCT-ND; Code_JEDEC: MO-220-WGHD-1; ComponentLink1Description: LM3432 Datasheet; ComponentLink1URL: http://www.national.com/ds/LM/LM3432.pdf; ComponentLink2Description: LM3432 Web Page; ComponentLink2URL: http://www.national.com/pf/LM/LM3432.html; ComponentLink3Description: SQA24B Package Drawing; ComponentLink3URL: http://www.national.com/packaging/folders/sqa24b.html
footprint SQA24B (QFN, 24-Leads, Body 5x4mm, Pitch 0.5mm, NSC Recommended)
pins: 1 VCC (power), 2 IREF (in), 3 AGND (power), 4 CDHC, 5 VDHC (out), 6 EN (in), 7 MODE (in), 8 DIM, 9 FAULTb (oc), 10 OTMb (oc), 11 NC, 12 IOUT1 (oc), 13 IOUT2 (oc), 14 NC, 15 IOUT3 (oc), 16 NC, 17 IOUT4 (oc), 18 NC, 19 IOUT5 (oc), 20 IOUT6 (oc), 21 NC, 22 PGND (power), 23 NC, 24 VIN (power), 25 EP (power)

## LM3433SQ
designator U?
Common Anode Capable High Brightness LED Driver with High Frequency Dimming; PartNumber: LM3433SQ; Manufacturer: National Semiconductor; CompType: Switcher; PackageTopMarking: NS*UZXYTT*L3433SQ; Published: 4-Dec-2008; PackageVersion: revB, Aug-2003; PackageReference: SQA24A; Publisher: Altium Limited; PackageDescription: LLP, Plastic, Quad, 4 x 4 x 0.8mm Body, 24 Lead, 0.5mm Pitch, No Pullback; RoHS: Y; PinCount: 24; DigiKeyPartNumber: LM3433SQCT-ND; Code_JEDEC: MO-220-WGGD-6; ComponentLink1Description: LM3433 Datasheet; ComponentLink1URL: http://www.national.com/ds/LM/LM3433.pdf; ComponentLink2Description: LM3433 Web Page; ComponentLink2URL: http://www.national.com/pf/LM/LM3433.html; ComponentLink3Description: SQA24A Package Drawing; ComponentLink3URL: http://www.national.com/packaging/folders/sqa24a.html
footprint SQA24A (QFN, 24-Leads, Body 4x4mm, Pitch 0.5mm, NSC Recommended)
pins: 1 TON (in), 2 ADJ (in), 3 EN (in), 4 DIM (in), 5 VIN (power), 6 CGND (power), 7 VEE (power), 8 COMP, 9 NC, 10 SS, 11 NC, 12 NC, 13 LS (in), 14 LO (out), 15 VCC (power), 16 BST (in), 17 HO (out), 18 HS (in), 19 DIMR (in), 20 DIMO (out), 21 BST2, 22 NC, 23 CSN (in), 24 CSP (in), 25 EP (power)

## LM3475MF
designator U?
Hysteretic PFET Buck Controller; PartNumber: LM3475MF; Manufacturer: National Semiconductor; CompType: Switcher; PackageTopMarking: S65B*XTT; Published: 4-Dec-2008; PackageVersion: revD, Aug-2008; PackageReference: MF05A; Publisher: Altium Limited; PackageDescription: Molded SOT-23, .115 x .063 x .040 in Body, 5 Lead, .0375 in Pitch; RoHS: O; PinCount: 5; DigiKeyPartNumber: LM3475MFCT-ND; Code_IPC: SOT23-5; ComponentLink1Description: LM3475 Datasheet; ComponentLink1URL: http://www.national.com/ds/LM/LM3475.pdf; ComponentLink2Description: LM3475 Web Page; ComponentLink2URL: http://www.national.com/pf/LM/LM3475.html; ComponentLink3Description: MF05A Package Drawing; ComponentLink3URL: http://www.national.com/packaging/folders/mf05a.html
footprint MF05A_N (SOT23, 5-Leads, Body 2.9x1.6mm, Pitch 0.95mm, Lead Span 2.8mm, IPC Medium Density)
footprint MF05A_L (SOT23, 5-Leads, Body 2.9x1.6mm, Pitch 0.95mm, Lead Span 2.8mm, IPC High Density)
footprint MF05A_M (SOT23, 5-Leads, Body 2.9x1.6mm, Pitch 0.95mm, Lead Span 2.8mm, IPC Low Density)
pins: 1 FB (in), 2 GND (power), 3 EN (in), 4 IN (power), 5 PGATE (power)

## LM3477AMM
designator U?
High Efficiency High-Side N-Channel Controller for Switching Regulator; PartNumber: LM3477AMM; Manufacturer: National Semiconductor; CompType: Switcher; PackageTopMarking: ZXTT*S13A; Published: 4-Dec-2008; PackageVersion: revF, Apr-2008; PackageReference: MUA08A; Publisher: Altium Limited; PackageDescription: MINI SOIC, .118 x .118 x .034in, 8 Lead, .0256in Pitch; RoHS: O; PinCount: 8; DigiKeyPartNumber: LM3477AMMCT-ND; Code_JEDEC: MO-187-AA; ComponentLink1Description: LM3477 Datasheet; ComponentLink1URL: http://www.national.com/ds/LM/LM3477.pdf; ComponentLink2Description: LM3477 Web Page; ComponentLink2URL: http://www.national.com/pf/LM/LM3477.html; ComponentLink3Description: MUA08A Package Page; ComponentLink3URL: http://www.national.com/packaging/folders/mua08a.html
footprint MUA08A_N (TSOP, 8-Leads, Body 3x3mm, Pitch 0.65mm, IPC Medium Density)
footprint MUA08A_L (TSOP, 8-Leads, Body 3x3mm, Pitch 0.65mm, IPC High Density)
footprint MUA08A_M (TSOP, 8-Leads, Body 3x3mm, Pitch 0.65mm, IPC Low Density)
pins: 1 ISEN (in), 2 COMP/~{SD}, 3 FB (in), 4 GND (power), 5 SW (power), 6 DR (out), 7 CB, 8 VIN (power)

## LM3477MM
designator U?
High Efficiency High-Side N-Channel Controller for Switching Regulator; PartNumber: LM3477MM; Manufacturer: National Semiconductor; CompType: Switcher; PackageTopMarking: ZXTT*S13B; Published: 4-Dec-2008; PackageVersion: revF, Apr-2008; PackageReference: MUA08A; Publisher: Altium Limited; PackageDescription: MINI SOIC, .118 x .118 x .034in, 8 Lead, .0256in Pitch; RoHS: O; PinCount: 8; DigiKeyPartNumber: LM3477MMCT-ND; Code_JEDEC: MO-187-AA; ComponentLink1Description: LM3477 Datasheet; ComponentLink1URL: http://www.national.com/ds/LM/LM3477.pdf; ComponentLink2Description: LM3477 Web Page; ComponentLink2URL: http://www.national.com/pf/LM/LM3477.html; ComponentLink3Description: MUA08A Package Page; ComponentLink3URL: http://www.national.com/packaging/folders/mua08a.html
footprint MUA08A_N (TSOP, 8-Leads, Body 3x3mm, Pitch 0.65mm, IPC Medium Density)
footprint MUA08A_L (TSOP, 8-Leads, Body 3x3mm, Pitch 0.65mm, IPC High Density)
footprint MUA08A_M (TSOP, 8-Leads, Body 3x3mm, Pitch 0.65mm, IPC Low Density)
pins: 1 ISEN (in), 2 COMP/~{SD}, 3 FB (in), 4 GND (power), 5 SW (power), 6 DR (out), 7 CB, 8 VIN (power)

## LM3485MM
designator U?
Hysteretic PFET Buck Controller; PartNumber: LM3485MM; Manufacturer: National Semiconductor; CompType: Switcher; PackageTopMarking: ZXTT*S29B; Published: 4-Dec-2008; PackageVersion: revF, Apr-2008; PackageReference: MUA08A; Publisher: Altium Limited; PackageDescription: MINI SOIC, .118 x .118 x .034in, 8 Lead, .0256in Pitch; RoHS: O; PinCount: 8; DigiKeyPartNumber: LM3485MMCT-ND; Code_JEDEC: MO-187-AA; ComponentLink1Description: LM3485 Datasheet; ComponentLink1URL: http://www.national.com/ds/LM/LM3485.pdf; ComponentLink2Description: LM3485 Web Page; ComponentLink2URL: http://www.national.com/pf/LM/LM3485.html; ComponentLink3Description: MUA08A Package Page; ComponentLink3URL: http://www.national.com/packaging/folders/mua08a.html
footprint MUA08A_N (TSOP, 8-Leads, Body 3x3mm, Pitch 0.65mm, IPC Medium Density)
footprint MUA08A_L (TSOP, 8-Leads, Body 3x3mm, Pitch 0.65mm, IPC High Density)
footprint MUA08A_M (TSOP, 8-Leads, Body 3x3mm, Pitch 0.65mm, IPC Low Density)
pins: 1 ISENSE (in), 2 GND (power), 3 NC, 4 FB (in), 5 ADJ (in), 6 PGND (power), 7 PG (out), 8 VIN (power)

## LM3489MM
designator U?
Hysteretic PFET Buck Controller with Enable Pin; PartNumber: LM3489MM; Manufacturer: National Semiconductor; CompType: Switcher; PackageTopMarking: ZXTT*SKSB; Published: 4-Dec-2008; PackageVersion: revF, Apr-2008; PackageReference: MUA08A; Publisher: Altium Limited; PackageDescription: MINI SOIC, .118 x .118 x .034in, 8 Lead, .0256in Pitch; RoHS: Y; PinCount: 8; DigiKeyPartNumber: LM3489MMCT-ND; Code_JEDEC: MO-187-AA; ComponentLink1Description: LM3489 Datasheet; ComponentLink1URL: http://www.national.com/ds/LM/LM3489.pdf; ComponentLink2Description: LM3489 Web Page; ComponentLink2URL: http://www.national.com/pf/LM/LM3489.html; ComponentLink3Description: MUA08A Package Page; ComponentLink3URL: http://www.national.com/packaging/folders/mua08a.html
footprint MUA08A_N (TSOP, 8-Leads, Body 3x3mm, Pitch 0.65mm, IPC Medium Density)
footprint MUA08A_L (TSOP, 8-Leads, Body 3x3mm, Pitch 0.65mm, IPC High Density)
footprint MUA08A_M (TSOP, 8-Leads, Body 3x3mm, Pitch 0.65mm, IPC Low Density)
pins: 1 ISENSE (in), 2 GND (power), 3 EN (in), 4 FB (in), 5 ADJ (in), 6 PGND (power), 7 PG (out), 8 VIN (power)

## LM3489QMM
designator U?
Hysteretic PFET Buck Controller with Enable Pin; PartNumber: LM3489QMM; Manufacturer: National Semiconductor; CompType: Switcher; PackageTopMarking: ZXTT*STEB; Published: 4-Dec-2008; PackageVersion: revF, Apr-2008; PackageReference: MUA08A; Publisher: Altium Limited; PackageDescription: MINI SOIC, .118 x .118 x .034in, 8 Lead, .0256in Pitch; RoHS: Y; PinCount: 8; Code_JEDEC: MO-187-AA; ComponentLink1Description: LM3489 Datasheet; ComponentLink1URL: http://www.national.com/ds/LM/LM3489.pdf; ComponentLink2Description: LM3489 Web Page; ComponentLink2URL: http://www.national.com/pf/LM/LM3489.html; ComponentLink3Description: MUA08A Package Drawing; ComponentLink3URL: http://www.national.com/packaging/folders/mua08a.html
footprint MUA08A_N (TSOP, 8-Leads, Body 3x3mm, Pitch 0.65mm, IPC Medium Density)
footprint MUA08A_L (TSOP, 8-Leads, Body 3x3mm, Pitch 0.65mm, IPC High Density)
footprint MUA08A_M (TSOP, 8-Leads, Body 3x3mm, Pitch 0.65mm, IPC Low Density)
pins: 1 ISEN (in), 2 GND (power), 3 EN (in), 4 FB (in), 5 ADJ (in), 6 PGND (power), 7 PGATE (out), 8 VIN (power)

## LM3495MTC
designator U?
Emulated Peak Current Mode Buck Controller for Low Output Voltage; PartNumber: LM3495MTC; Manufacturer: National Semiconductor; CompType: Switcher; PackageTopMarking: NSUZXYTT*LM3495*MTC; Published: 4-Dec-2008; PackageVersion: revD, Jun-2003; PackageReference: MTC16; Publisher: Altium Limited; PackageDescription: Molded TSSOP, Jedec, 5 x 4.4 x 0.9mm Body, 16 Lead, 0.65mm Pitch; RoHS: Y; PinCount: 16; DigiKeyPartNumber: LM3495MTC-ND; Code_JEDEC: MO-153-AB; ComponentLink1Description: LM3495 Datasheet; ComponentLink1URL: http://www.national.com/ds/LM/LM3495.pdf; ComponentLink2Description: LM3495 Web Page; ComponentLink2URL: http://www.national.com/pf/LM/LM3495.html; ComponentLink3Description: MTC16 Package Page; ComponentLink3URL: http://www.national.com/packaging/folders/mtc16.html
footprint MTC16_N (TSOP, 16-Leads, Body 5x4.4mm, Pitch 0.65mm, IPC Medium Density)
footprint MTC16_L (TSOP, 16-Leads, Body 5x4.4mm, Pitch 0.65mm, IPC High Density)
footprint MTC16_M (TSOP, 16-Leads, Body 5x4.4mm, Pitch 0.65mm, IPC Low Density)
pins: 1 BOOST (power), 2 HG (power), 3 SW/CSH (in), 4 CSL (in), 5 ILIM (in), 6 ~{FPWM}, 7 SNS, 8 FREQ/SYNC (in), 9 TRACK (in), 10 FB (in), 11 COMP/~{SD}, 12 SGND (power), 13 VIN (power), 14 VLIN5 (power), 15 LG (out), 16 PGND (power)